# Altium footprint library TI Power Management Lighting and Display.PcbLib: 148 footprints (part 8 of 10)
Each footprint in its own frame and in the unit in brackets; x right, y up, seen from the top. Pads: shape width x height; smd on the part's side, far side on the other; paste and mask are expansions set on the pad; w line width, h text height; cw(c..) or ccw(c..) is an arc to the next point about the centre after c.
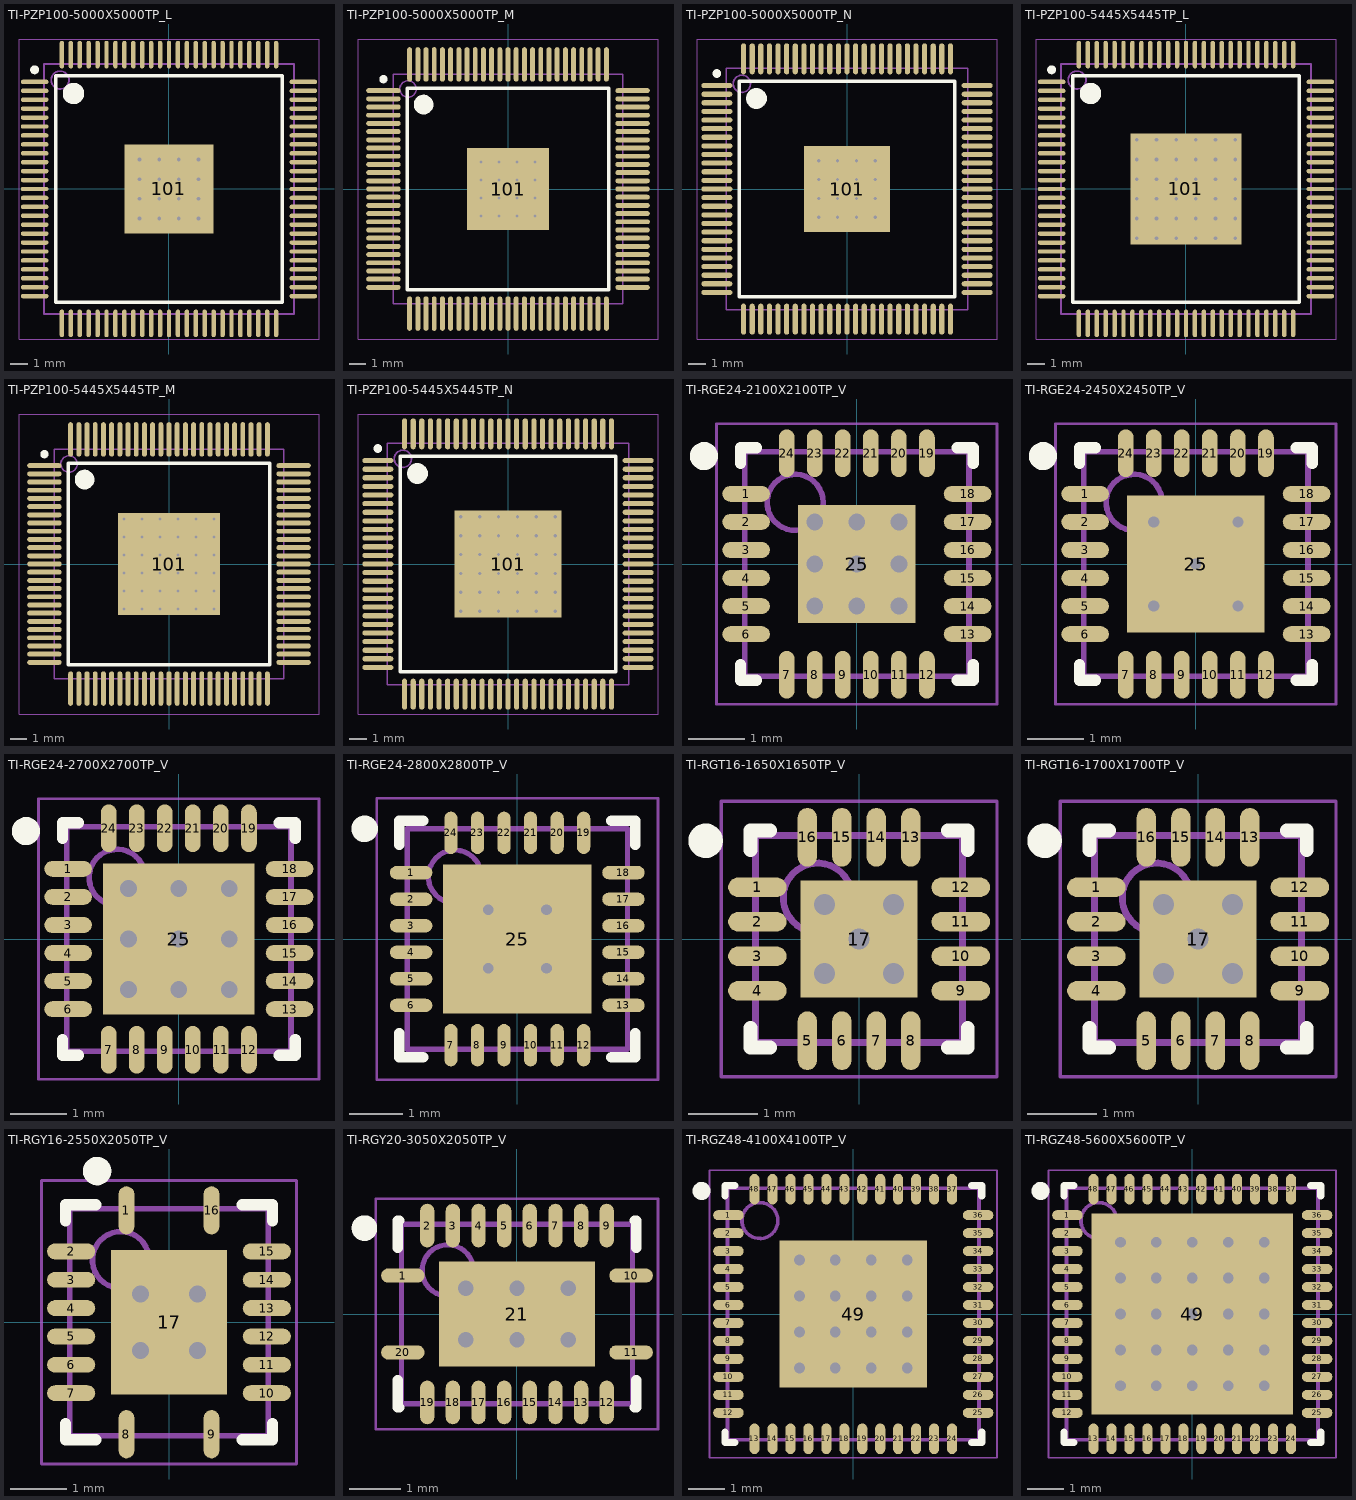
[diagram p7: the footprints below, top view; thin cyan lines are the x and y axes]

## TI-PZP100-5000X5000TP_L [mm] "QFP, 100-Leads, Body 14x14mm, Pitch 0.5mm, Thermal Pad 5x5mm, IPC High Density"
height 1.2
pads (101):
  oval 1.55x0.25 smd: 1(-7.525,6) 2(-7.525,5.5) 3(-7.525,5) 4(-7.525,4.5) 5(-7.525,4) 6(-7.525,3.5) 7(-7.525,3) 8(-7.525,2.5) 9(-7.525,2) 10(-7.525,1.5) 11(-7.525,1) 12(-7.525,0.5) 13(-7.525,0) 14(-7.525,-0.5) 15(-7.525,-1) 16(-7.525,-1.5) 17(-7.525,-2) 18(-7.525,-2.5) 19(-7.525,-3) 20(-7.525,-3.5) 21(-7.525,-4) 22(-7.525,-4.5) 23(-7.525,-5) 24(-7.525,-5.5) 25(-7.525,-6) 51(7.525,-6) 52(7.525,-5.5) 53(7.525,-5) 54(7.525,-4.5) 55(7.525,-4) 56(7.525,-3.5) 57(7.525,-3) 58(7.525,-2.5) 59(7.525,-2) 60(7.525,-1.5) 61(7.525,-1) 62(7.525,-0.5) 63(7.525,0) 64(7.525,0.5) 65(7.525,1) 66(7.525,1.5) 67(7.525,2) 68(7.525,2.5) 69(7.525,3) 70(7.525,3.5) 71(7.525,4) 72(7.525,4.5) 73(7.525,5) 74(7.525,5.5) 75(7.525,6)
  oval 0.25x1.55 smd: 26(-6,-7.525) 27(-5.5,-7.525) 28(-5,-7.525) 29(-4.5,-7.525) 30(-4,-7.525) 31(-3.5,-7.525) 32(-3,-7.525) 33(-2.5,-7.525) 34(-2,-7.525) 35(-1.5,-7.525) 36(-1,-7.525) 37(-0.5,-7.525) 38(0,-7.525) 39(0.5,-7.525) 40(1,-7.525) 41(1.5,-7.525) 42(2,-7.525) 43(2.5,-7.525) 44(3,-7.525) 45(3.5,-7.525) 46(4,-7.525) 47(4.5,-7.525) 48(5,-7.525) 49(5.5,-7.525) 50(6,-7.525) 76(6,7.525) 77(5.5,7.525) 78(5,7.525) 79(4.5,7.525) 80(4,7.525) 81(3.5,7.525) 82(3,7.525) 83(2.5,7.525) 84(2,7.525) 85(1.5,7.525) 86(1,7.525) 87(0.5,7.525) 88(0,7.525) 89(-0.5,7.525) 90(-1,7.525) 91(-1.5,7.525) 92(-2,7.525) 93(-2.5,7.525) 94(-3,7.525) 95(-3.5,7.525) 96(-4,7.525) 97(-4.5,7.525) 98(-5,7.525) 99(-5.5,7.525) 100(-6,7.525)
  rect 5x5 smd: 101(0,0)
via -1.65,1.65 diameter 0.5 hole 0.2
via -0.55,1.65 diameter 0.5 hole 0.2
via 0.55,1.65 diameter 0.5 hole 0.2
via 1.65,1.65 diameter 0.5 hole 0.2
via -1.65,0.55 diameter 0.5 hole 0.2
via -0.55,0.55 diameter 0.5 hole 0.2
via 0.55,0.55 diameter 0.5 hole 0.2
via 1.65,0.55 diameter 0.5 hole 0.2
via -1.65,-0.55 diameter 0.5 hole 0.2
via -0.55,-0.55 diameter 0.5 hole 0.2
via 0.55,-0.55 diameter 0.5 hole 0.2
via 1.65,-0.55 diameter 0.5 hole 0.2
via -1.65,-1.65 diameter 0.5 hole 0.2
via -0.55,-1.65 diameter 0.5 hole 0.2
via 0.55,-1.65 diameter 0.5 hole 0.2
via 1.65,-1.65 diameter 0.5 hole 0.2
Top Overlay:
  circle w0.25: c-7.525,6.675 r0.125
  circle w0.6: c-5.35,5.35 r0.3
  lines w0.2: -6.35,-6.35 -6.35,6.35 6.35,6.35 6.35,-6.35 -6.35,-6.35
Mechanical 13:
  circle w0.1: c-6.1,6.1 r0.5
  lines w0.1: -7,-7 -7,7 7,7 7,-7 -7,-7
Mechanical 15:
  lines w0.05: -8.4,-8.4 -8.4,8.4 8.4,8.4 8.4,-8.4 -8.4,-8.4
  lines w0.1: -0.5,0 0.5,0 ; 0,-0.5 0,0.5
3D body: height 1.2, standoff 0.05, extent -7,-7 7,7

## TI-PZP100-5000X5000TP_M [mm] "QFP, 100-Leads, Body 14x14mm, Pitch 0.5mm, Thermal Pad 5x5mm, IPC Low Density"
height 1.2
pads (101):
  oval 2.1x0.3 smd: 1(-7.6,6) 2(-7.6,5.5) 3(-7.6,5) 4(-7.6,4.5) 5(-7.6,4) 6(-7.6,3.5) 7(-7.6,3) 8(-7.6,2.5) 9(-7.6,2) 10(-7.6,1.5) 11(-7.6,1) 12(-7.6,0.5) 13(-7.6,0) 14(-7.6,-0.5) 15(-7.6,-1) 16(-7.6,-1.5) 17(-7.6,-2) 18(-7.6,-2.5) 19(-7.6,-3) 20(-7.6,-3.5) 21(-7.6,-4) 22(-7.6,-4.5) 23(-7.6,-5) 24(-7.6,-5.5) 25(-7.6,-6) 51(7.6,-6) 52(7.6,-5.5) 53(7.6,-5) 54(7.6,-4.5) 55(7.6,-4) 56(7.6,-3.5) 57(7.6,-3) 58(7.6,-2.5) 59(7.6,-2) 60(7.6,-1.5) 61(7.6,-1) 62(7.6,-0.5) 63(7.6,0) 64(7.6,0.5) 65(7.6,1) 66(7.6,1.5) 67(7.6,2) 68(7.6,2.5) 69(7.6,3) 70(7.6,3.5) 71(7.6,4) 72(7.6,4.5) 73(7.6,5) 74(7.6,5.5) 75(7.6,6)
  oval 0.3x2.1 smd: 26(-6,-7.6) 27(-5.5,-7.6) 28(-5,-7.6) 29(-4.5,-7.6) 30(-4,-7.6) 31(-3.5,-7.6) 32(-3,-7.6) 33(-2.5,-7.6) 34(-2,-7.6) 35(-1.5,-7.6) 36(-1,-7.6) 37(-0.5,-7.6) 38(0,-7.6) 39(0.5,-7.6) 40(1,-7.6) 41(1.5,-7.6) 42(2,-7.6) 43(2.5,-7.6) 44(3,-7.6) 45(3.5,-7.6) 46(4,-7.6) 47(4.5,-7.6) 48(5,-7.6) 49(5.5,-7.6) 50(6,-7.6) 76(6,7.6) 77(5.5,7.6) 78(5,7.6) 79(4.5,7.6) 80(4,7.6) 81(3.5,7.6) 82(3,7.6) 83(2.5,7.6) 84(2,7.6) 85(1.5,7.6) 86(1,7.6) 87(0.5,7.6) 88(0,7.6) 89(-0.5,7.6) 90(-1,7.6) 91(-1.5,7.6) 92(-2,7.6) 93(-2.5,7.6) 94(-3,7.6) 95(-3.5,7.6) 96(-4,7.6) 97(-4.5,7.6) 98(-5,7.6) 99(-5.5,7.6) 100(-6,7.6)
  rect 5x5 smd: 101(0,0)
via -1.65,1.65 diameter 0.5 hole 0.2
via -0.55,1.65 diameter 0.5 hole 0.2
via 0.55,1.65 diameter 0.5 hole 0.2
via 1.65,1.65 diameter 0.5 hole 0.2
via -1.65,0.55 diameter 0.5 hole 0.2
via -0.55,0.55 diameter 0.5 hole 0.2
via 0.55,0.55 diameter 0.5 hole 0.2
via 1.65,0.55 diameter 0.5 hole 0.2
via -1.65,-0.55 diameter 0.5 hole 0.2
via -0.55,-0.55 diameter 0.5 hole 0.2
via 0.55,-0.55 diameter 0.5 hole 0.2
via 1.65,-0.55 diameter 0.5 hole 0.2
via -1.65,-1.65 diameter 0.5 hole 0.2
via -0.55,-1.65 diameter 0.5 hole 0.2
via 0.55,-1.65 diameter 0.5 hole 0.2
via 1.65,-1.65 diameter 0.5 hole 0.2
Top Overlay:
  circle w0.25: c-7.6,6.7 r0.125
  circle w0.6: c-5.15,5.15 r0.3
  lines w0.2: -6.15,-6.15 -6.15,6.15 6.15,6.15 6.15,-6.15 -6.15,-6.15
Mechanical 13:
  circle w0.1: c-6.1,6.1 r0.5
  lines w0.1: -7,-7 -7,7 7,7 7,-7 -7,-7
Mechanical 15:
  lines w0.05: -9.15,-9.15 -9.15,9.15 9.15,9.15 9.15,-9.15 -9.15,-9.15
  lines w0.1: -0.5,0 0.5,0 ; 0,-0.5 0,0.5
3D body: height 1.2, standoff 0.05, extent -7,-7 7,7

## TI-PZP100-5000X5000TP_N [mm] "QFP, 100-Leads, Body 14x14mm, Pitch 0.5mm, Thermal Pad 5x5mm, IPC Medium Density"
height 1.2
pads (101):
  oval 1.8x0.3 smd: 1(-7.55,6) 2(-7.55,5.5) 3(-7.55,5) 4(-7.55,4.5) 5(-7.55,4) 6(-7.55,3.5) 7(-7.55,3) 8(-7.55,2.5) 9(-7.55,2) 10(-7.55,1.5) 11(-7.55,1) 12(-7.55,0.5) 13(-7.55,0) 14(-7.55,-0.5) 15(-7.55,-1) 16(-7.55,-1.5) 17(-7.55,-2) 18(-7.55,-2.5) 19(-7.55,-3) 20(-7.55,-3.5) 21(-7.55,-4) 22(-7.55,-4.5) 23(-7.55,-5) 24(-7.55,-5.5) 25(-7.55,-6) 51(7.55,-6) 52(7.55,-5.5) 53(7.55,-5) 54(7.55,-4.5) 55(7.55,-4) 56(7.55,-3.5) 57(7.55,-3) 58(7.55,-2.5) 59(7.55,-2) 60(7.55,-1.5) 61(7.55,-1) 62(7.55,-0.5) 63(7.55,0) 64(7.55,0.5) 65(7.55,1) 66(7.55,1.5) 67(7.55,2) 68(7.55,2.5) 69(7.55,3) 70(7.55,3.5) 71(7.55,4) 72(7.55,4.5) 73(7.55,5) 74(7.55,5.5) 75(7.55,6)
  oval 0.3x1.8 smd: 26(-6,-7.55) 27(-5.5,-7.55) 28(-5,-7.55) 29(-4.5,-7.55) 30(-4,-7.55) 31(-3.5,-7.55) 32(-3,-7.55) 33(-2.5,-7.55) 34(-2,-7.55) 35(-1.5,-7.55) 36(-1,-7.55) 37(-0.5,-7.55) 38(0,-7.55) 39(0.5,-7.55) 40(1,-7.55) 41(1.5,-7.55) 42(2,-7.55) 43(2.5,-7.55) 44(3,-7.55) 45(3.5,-7.55) 46(4,-7.55) 47(4.5,-7.55) 48(5,-7.55) 49(5.5,-7.55) 50(6,-7.55) 76(6,7.55) 77(5.5,7.55) 78(5,7.55) 79(4.5,7.55) 80(4,7.55) 81(3.5,7.55) 82(3,7.55) 83(2.5,7.55) 84(2,7.55) 85(1.5,7.55) 86(1,7.55) 87(0.5,7.55) 88(0,7.55) 89(-0.5,7.55) 90(-1,7.55) 91(-1.5,7.55) 92(-2,7.55) 93(-2.5,7.55) 94(-3,7.55) 95(-3.5,7.55) 96(-4,7.55) 97(-4.5,7.55) 98(-5,7.55) 99(-5.5,7.55) 100(-6,7.55)
  rect 5x5 smd: 101(0,0)
via -1.65,1.65 diameter 0.5 hole 0.2
via -0.55,1.65 diameter 0.5 hole 0.2
via 0.55,1.65 diameter 0.5 hole 0.2
via 1.65,1.65 diameter 0.5 hole 0.2
via -1.65,0.55 diameter 0.5 hole 0.2
via -0.55,0.55 diameter 0.5 hole 0.2
via 0.55,0.55 diameter 0.5 hole 0.2
via 1.65,0.55 diameter 0.5 hole 0.2
via -1.65,-0.55 diameter 0.5 hole 0.2
via -0.55,-0.55 diameter 0.5 hole 0.2
via 0.55,-0.55 diameter 0.5 hole 0.2
via 1.65,-0.55 diameter 0.5 hole 0.2
via -1.65,-1.65 diameter 0.5 hole 0.2
via -0.55,-1.65 diameter 0.5 hole 0.2
via 0.55,-1.65 diameter 0.5 hole 0.2
via 1.65,-1.65 diameter 0.5 hole 0.2
Top Overlay:
  circle w0.25: c-7.55,6.7 r0.125
  circle w0.6: c-5.25,5.25 r0.3
  lines w0.2: -6.25,-6.25 -6.25,6.25 6.25,6.25 6.25,-6.25 -6.25,-6.25
Mechanical 13:
  circle w0.1: c-6.1,6.1 r0.5
  lines w0.1: -7,-7 -7,7 7,7 7,-7 -7,-7
Mechanical 15:
  lines w0.05: -8.7,-8.7 -8.7,8.7 8.7,8.7 8.7,-8.7 -8.7,-8.7
  lines w0.1: -0.5,0 0.5,0 ; 0,-0.5 0,0.5
3D body: height 1.2, standoff 0.05, extent -7,-7 7,7

## TI-PZP100-5445X5445TP_L [mm] "QFP, 100-Leads, Body 14x14mm, Pitch 0.5mm, Thermal Pad 5.445x5.445mm, IPC High Density"
height 1.2
pads (101):
  oval 1.55x0.25 smd: 1(-7.525,6) 2(-7.525,5.5) 3(-7.525,5) 4(-7.525,4.5) 5(-7.525,4) 6(-7.525,3.5) 7(-7.525,3) 8(-7.525,2.5) 9(-7.525,2) 10(-7.525,1.5) 11(-7.525,1) 12(-7.525,0.5) 13(-7.525,0) 14(-7.525,-0.5) 15(-7.525,-1) 16(-7.525,-1.5) 17(-7.525,-2) 18(-7.525,-2.5) 19(-7.525,-3) 20(-7.525,-3.5) 21(-7.525,-4) 22(-7.525,-4.5) 23(-7.525,-5) 24(-7.525,-5.5) 25(-7.525,-6) 51(7.525,-6) 52(7.525,-5.5) 53(7.525,-5) 54(7.525,-4.5) 55(7.525,-4) 56(7.525,-3.5) 57(7.525,-3) 58(7.525,-2.5) 59(7.525,-2) 60(7.525,-1.5) 61(7.525,-1) 62(7.525,-0.5) 63(7.525,0) 64(7.525,0.5) 65(7.525,1) 66(7.525,1.5) 67(7.525,2) 68(7.525,2.5) 69(7.525,3) 70(7.525,3.5) 71(7.525,4) 72(7.525,4.5) 73(7.525,5) 74(7.525,5.5) 75(7.525,6)
  oval 0.25x1.55 smd: 26(-6,-7.525) 27(-5.5,-7.525) 28(-5,-7.525) 29(-4.5,-7.525) 30(-4,-7.525) 31(-3.5,-7.525) 32(-3,-7.525) 33(-2.5,-7.525) 34(-2,-7.525) 35(-1.5,-7.525) 36(-1,-7.525) 37(-0.5,-7.525) 38(0,-7.525) 39(0.5,-7.525) 40(1,-7.525) 41(1.5,-7.525) 42(2,-7.525) 43(2.5,-7.525) 44(3,-7.525) 45(3.5,-7.525) 46(4,-7.525) 47(4.5,-7.525) 48(5,-7.525) 49(5.5,-7.525) 50(6,-7.525) 76(6,7.525) 77(5.5,7.525) 78(5,7.525) 79(4.5,7.525) 80(4,7.525) 81(3.5,7.525) 82(3,7.525) 83(2.5,7.525) 84(2,7.525) 85(1.5,7.525) 86(1,7.525) 87(0.5,7.525) 88(0,7.525) 89(-0.5,7.525) 90(-1,7.525) 91(-1.5,7.525) 92(-2,7.525) 93(-2.5,7.525) 94(-3,7.525) 95(-3.5,7.525) 96(-4,7.525) 97(-4.5,7.525) 98(-5,7.525) 99(-5.5,7.525) 100(-6,7.525)
  rect 6.2x6.2 smd: 101(0,0)
via -2.75,2.75 diameter 0.5 hole 0.2
via -1.65,2.75 diameter 0.5 hole 0.2
via -0.55,2.75 diameter 0.5 hole 0.2
via 0.55,2.75 diameter 0.5 hole 0.2
via 1.65,2.75 diameter 0.5 hole 0.2
via 2.75,2.75 diameter 0.5 hole 0.2
via -2.75,1.65 diameter 0.5 hole 0.2
via -1.65,1.65 diameter 0.5 hole 0.2
via -0.55,1.65 diameter 0.5 hole 0.2
via 0.55,1.65 diameter 0.5 hole 0.2
via 1.65,1.65 diameter 0.5 hole 0.2
via 2.75,1.65 diameter 0.5 hole 0.2
via -2.75,0.55 diameter 0.5 hole 0.2
via -1.65,0.55 diameter 0.5 hole 0.2
via -0.55,0.55 diameter 0.5 hole 0.2
via 0.55,0.55 diameter 0.5 hole 0.2
via 1.65,0.55 diameter 0.5 hole 0.2
via 2.75,0.55 diameter 0.5 hole 0.2
via -2.75,-0.55 diameter 0.5 hole 0.2
via -1.65,-0.55 diameter 0.5 hole 0.2
via -0.55,-0.55 diameter 0.5 hole 0.2
via 0.55,-0.55 diameter 0.5 hole 0.2
via 1.65,-0.55 diameter 0.5 hole 0.2
via 2.75,-0.55 diameter 0.5 hole 0.2
via -2.75,-1.65 diameter 0.5 hole 0.2
via -1.65,-1.65 diameter 0.5 hole 0.2
via -0.55,-1.65 diameter 0.5 hole 0.2
via 0.55,-1.65 diameter 0.5 hole 0.2
via 1.65,-1.65 diameter 0.5 hole 0.2
via 2.75,-1.65 diameter 0.5 hole 0.2
via -2.75,-2.75 diameter 0.5 hole 0.2
via -1.65,-2.75 diameter 0.5 hole 0.2
via -0.55,-2.75 diameter 0.5 hole 0.2
via 0.55,-2.75 diameter 0.5 hole 0.2
via 1.65,-2.75 diameter 0.5 hole 0.2
via 2.75,-2.75 diameter 0.5 hole 0.2
Top Overlay:
  circle w0.25: c-7.525,6.675 r0.125
  circle w0.6: c-5.35,5.35 r0.3
  lines w0.2: -6.35,-6.35 -6.35,6.35 6.35,6.35 6.35,-6.35 -6.35,-6.35
Mechanical 13:
  circle w0.1: c-6.1,6.1 r0.5
  lines w0.1: -7,-7 -7,7 7,7 7,-7 -7,-7
Mechanical 15:
  lines w0.05: -8.4,-8.4 -8.4,8.4 8.4,8.4 8.4,-8.4 -8.4,-8.4
  lines w0.1: -0.5,0 0.5,0 ; 0,-0.5 0,0.5
3D body: height 1.2, standoff 0.05, extent -7,-7 7,7

## TI-PZP100-5445X5445TP_M [mm] "QFP, 100-Leads, Body 14x14mm, Pitch 0.5mm, Thermal Pad 5.445x5.445mm, IPC Low Density"
height 1.2
pads (101):
  oval 2.1x0.3 smd: 1(-7.6,6) 2(-7.6,5.5) 3(-7.6,5) 4(-7.6,4.5) 5(-7.6,4) 6(-7.6,3.5) 7(-7.6,3) 8(-7.6,2.5) 9(-7.6,2) 10(-7.6,1.5) 11(-7.6,1) 12(-7.6,0.5) 13(-7.6,0) 14(-7.6,-0.5) 15(-7.6,-1) 16(-7.6,-1.5) 17(-7.6,-2) 18(-7.6,-2.5) 19(-7.6,-3) 20(-7.6,-3.5) 21(-7.6,-4) 22(-7.6,-4.5) 23(-7.6,-5) 24(-7.6,-5.5) 25(-7.6,-6) 51(7.6,-6) 52(7.6,-5.5) 53(7.6,-5) 54(7.6,-4.5) 55(7.6,-4) 56(7.6,-3.5) 57(7.6,-3) 58(7.6,-2.5) 59(7.6,-2) 60(7.6,-1.5) 61(7.6,-1) 62(7.6,-0.5) 63(7.6,0) 64(7.6,0.5) 65(7.6,1) 66(7.6,1.5) 67(7.6,2) 68(7.6,2.5) 69(7.6,3) 70(7.6,3.5) 71(7.6,4) 72(7.6,4.5) 73(7.6,5) 74(7.6,5.5) 75(7.6,6)
  oval 0.3x2.1 smd: 26(-6,-7.6) 27(-5.5,-7.6) 28(-5,-7.6) 29(-4.5,-7.6) 30(-4,-7.6) 31(-3.5,-7.6) 32(-3,-7.6) 33(-2.5,-7.6) 34(-2,-7.6) 35(-1.5,-7.6) 36(-1,-7.6) 37(-0.5,-7.6) 38(0,-7.6) 39(0.5,-7.6) 40(1,-7.6) 41(1.5,-7.6) 42(2,-7.6) 43(2.5,-7.6) 44(3,-7.6) 45(3.5,-7.6) 46(4,-7.6) 47(4.5,-7.6) 48(5,-7.6) 49(5.5,-7.6) 50(6,-7.6) 76(6,7.6) 77(5.5,7.6) 78(5,7.6) 79(4.5,7.6) 80(4,7.6) 81(3.5,7.6) 82(3,7.6) 83(2.5,7.6) 84(2,7.6) 85(1.5,7.6) 86(1,7.6) 87(0.5,7.6) 88(0,7.6) 89(-0.5,7.6) 90(-1,7.6) 91(-1.5,7.6) 92(-2,7.6) 93(-2.5,7.6) 94(-3,7.6) 95(-3.5,7.6) 96(-4,7.6) 97(-4.5,7.6) 98(-5,7.6) 99(-5.5,7.6) 100(-6,7.6)
  rect 6.2x6.2 smd: 101(0,0)
via -2.75,2.75 diameter 0.5 hole 0.2
via -1.65,2.75 diameter 0.5 hole 0.2
via -0.55,2.75 diameter 0.5 hole 0.2
via 0.55,2.75 diameter 0.5 hole 0.2
via 1.65,2.75 diameter 0.5 hole 0.2
via 2.75,2.75 diameter 0.5 hole 0.2
via -2.75,1.65 diameter 0.5 hole 0.2
via -1.65,1.65 diameter 0.5 hole 0.2
via -0.55,1.65 diameter 0.5 hole 0.2
via 0.55,1.65 diameter 0.5 hole 0.2
via 1.65,1.65 diameter 0.5 hole 0.2
via 2.75,1.65 diameter 0.5 hole 0.2
via -2.75,0.55 diameter 0.5 hole 0.2
via -1.65,0.55 diameter 0.5 hole 0.2
via -0.55,0.55 diameter 0.5 hole 0.2
via 0.55,0.55 diameter 0.5 hole 0.2
via 1.65,0.55 diameter 0.5 hole 0.2
via 2.75,0.55 diameter 0.5 hole 0.2
via -2.75,-0.55 diameter 0.5 hole 0.2
via -1.65,-0.55 diameter 0.5 hole 0.2
via -0.55,-0.55 diameter 0.5 hole 0.2
via 0.55,-0.55 diameter 0.5 hole 0.2
via 1.65,-0.55 diameter 0.5 hole 0.2
via 2.75,-0.55 diameter 0.5 hole 0.2
via -2.75,-1.65 diameter 0.5 hole 0.2
via -1.65,-1.65 diameter 0.5 hole 0.2
via -0.55,-1.65 diameter 0.5 hole 0.2
via 0.55,-1.65 diameter 0.5 hole 0.2
via 1.65,-1.65 diameter 0.5 hole 0.2
via 2.75,-1.65 diameter 0.5 hole 0.2
via -2.75,-2.75 diameter 0.5 hole 0.2
via -1.65,-2.75 diameter 0.5 hole 0.2
via -0.55,-2.75 diameter 0.5 hole 0.2
via 0.55,-2.75 diameter 0.5 hole 0.2
via 1.65,-2.75 diameter 0.5 hole 0.2
via 2.75,-2.75 diameter 0.5 hole 0.2
Top Overlay:
  circle w0.25: c-7.6,6.7 r0.125
  circle w0.6: c-5.15,5.15 r0.3
  lines w0.2: -6.15,-6.15 -6.15,6.15 6.15,6.15 6.15,-6.15 -6.15,-6.15
Mechanical 13:
  circle w0.1: c-6.1,6.1 r0.5
  lines w0.1: -7,-7 -7,7 7,7 7,-7 -7,-7
Mechanical 15:
  lines w0.05: -9.15,-9.15 -9.15,9.15 9.15,9.15 9.15,-9.15 -9.15,-9.15
  lines w0.1: -0.5,0 0.5,0 ; 0,-0.5 0,0.5
3D body: height 1.2, standoff 0.05, extent -7,-7 7,7

## TI-PZP100-5445X5445TP_N [mm] "QFP, 100-Leads, Body 14x14mm, Pitch 0.5mm, Thermal Pad 5.445x5.445mm, IPC Medium Density"
height 1.2
pads (101):
  oval 1.8x0.3 smd: 1(-7.55,6) 2(-7.55,5.5) 3(-7.55,5) 4(-7.55,4.5) 5(-7.55,4) 6(-7.55,3.5) 7(-7.55,3) 8(-7.55,2.5) 9(-7.55,2) 10(-7.55,1.5) 11(-7.55,1) 12(-7.55,0.5) 13(-7.55,0) 14(-7.55,-0.5) 15(-7.55,-1) 16(-7.55,-1.5) 17(-7.55,-2) 18(-7.55,-2.5) 19(-7.55,-3) 20(-7.55,-3.5) 21(-7.55,-4) 22(-7.55,-4.5) 23(-7.55,-5) 24(-7.55,-5.5) 25(-7.55,-6) 51(7.55,-6) 52(7.55,-5.5) 53(7.55,-5) 54(7.55,-4.5) 55(7.55,-4) 56(7.55,-3.5) 57(7.55,-3) 58(7.55,-2.5) 59(7.55,-2) 60(7.55,-1.5) 61(7.55,-1) 62(7.55,-0.5) 63(7.55,0) 64(7.55,0.5) 65(7.55,1) 66(7.55,1.5) 67(7.55,2) 68(7.55,2.5) 69(7.55,3) 70(7.55,3.5) 71(7.55,4) 72(7.55,4.5) 73(7.55,5) 74(7.55,5.5) 75(7.55,6)
  oval 0.3x1.8 smd: 26(-6,-7.55) 27(-5.5,-7.55) 28(-5,-7.55) 29(-4.5,-7.55) 30(-4,-7.55) 31(-3.5,-7.55) 32(-3,-7.55) 33(-2.5,-7.55) 34(-2,-7.55) 35(-1.5,-7.55) 36(-1,-7.55) 37(-0.5,-7.55) 38(0,-7.55) 39(0.5,-7.55) 40(1,-7.55) 41(1.5,-7.55) 42(2,-7.55) 43(2.5,-7.55) 44(3,-7.55) 45(3.5,-7.55) 46(4,-7.55) 47(4.5,-7.55) 48(5,-7.55) 49(5.5,-7.55) 50(6,-7.55) 76(6,7.55) 77(5.5,7.55) 78(5,7.55) 79(4.5,7.55) 80(4,7.55) 81(3.5,7.55) 82(3,7.55) 83(2.5,7.55) 84(2,7.55) 85(1.5,7.55) 86(1,7.55) 87(0.5,7.55) 88(0,7.55) 89(-0.5,7.55) 90(-1,7.55) 91(-1.5,7.55) 92(-2,7.55) 93(-2.5,7.55) 94(-3,7.55) 95(-3.5,7.55) 96(-4,7.55) 97(-4.5,7.55) 98(-5,7.55) 99(-5.5,7.55) 100(-6,7.55)
  rect 6.2x6.2 smd: 101(0,0)
via -2.75,2.75 diameter 0.5 hole 0.2
via -1.65,2.75 diameter 0.5 hole 0.2
via -0.55,2.75 diameter 0.5 hole 0.2
via 0.55,2.75 diameter 0.5 hole 0.2
via 1.65,2.75 diameter 0.5 hole 0.2
via 2.75,2.75 diameter 0.5 hole 0.2
via -2.75,1.65 diameter 0.5 hole 0.2
via -1.65,1.65 diameter 0.5 hole 0.2
via -0.55,1.65 diameter 0.5 hole 0.2
via 0.55,1.65 diameter 0.5 hole 0.2
via 1.65,1.65 diameter 0.5 hole 0.2
via 2.75,1.65 diameter 0.5 hole 0.2
via -2.75,0.55 diameter 0.5 hole 0.2
via -1.65,0.55 diameter 0.5 hole 0.2
via -0.55,0.55 diameter 0.5 hole 0.2
via 0.55,0.55 diameter 0.5 hole 0.2
via 1.65,0.55 diameter 0.5 hole 0.2
via 2.75,0.55 diameter 0.5 hole 0.2
via -2.75,-0.55 diameter 0.5 hole 0.2
via -1.65,-0.55 diameter 0.5 hole 0.2
via -0.55,-0.55 diameter 0.5 hole 0.2
via 0.55,-0.55 diameter 0.5 hole 0.2
via 1.65,-0.55 diameter 0.5 hole 0.2
via 2.75,-0.55 diameter 0.5 hole 0.2
via -2.75,-1.65 diameter 0.5 hole 0.2
via -1.65,-1.65 diameter 0.5 hole 0.2
via -0.55,-1.65 diameter 0.5 hole 0.2
via 0.55,-1.65 diameter 0.5 hole 0.2
via 1.65,-1.65 diameter 0.5 hole 0.2
via 2.75,-1.65 diameter 0.5 hole 0.2
via -2.75,-2.75 diameter 0.5 hole 0.2
via -1.65,-2.75 diameter 0.5 hole 0.2
via -0.55,-2.75 diameter 0.5 hole 0.2
via 0.55,-2.75 diameter 0.5 hole 0.2
via 1.65,-2.75 diameter 0.5 hole 0.2
via 2.75,-2.75 diameter 0.5 hole 0.2
Top Overlay:
  circle w0.25: c-7.55,6.7 r0.125
  circle w0.6: c-5.25,5.25 r0.3
  lines w0.2: -6.25,-6.25 -6.25,6.25 6.25,6.25 6.25,-6.25 -6.25,-6.25
Mechanical 13:
  circle w0.1: c-6.1,6.1 r0.5
  lines w0.1: -7,-7 -7,7 7,7 7,-7 -7,-7
Mechanical 15:
  lines w0.05: -8.7,-8.7 -8.7,8.7 8.7,8.7 8.7,-8.7 -8.7,-8.7
  lines w0.1: -0.5,0 0.5,0 ; 0,-0.5 0,0.5
3D body: height 1.2, standoff 0.05, extent -7,-7 7,7

## TI-RGE24-2100X2100TP_V [mm] "QFN, 24-Leads, Body 4x4mm, Pitch 0.5mm, Thermal Pad 2.1x2.1mm"
height 1
pads (25):
  oval 0.85x0.28 smd: 1(-1.975,1.25) 2(-1.975,0.75) 3(-1.975,0.25) 4(-1.975,-0.25) 5(-1.975,-0.75) 6(-1.975,-1.25) 13(1.975,-1.25) 14(1.975,-0.75) 15(1.975,-0.25) 16(1.975,0.25) 17(1.975,0.75) 18(1.975,1.25)
  oval 0.28x0.85 smd: 7(-1.25,-1.975) 8(-0.75,-1.975) 9(-0.25,-1.975) 10(0.25,-1.975) 11(0.75,-1.975) 12(1.25,-1.975) 19(1.25,1.975) 20(0.75,1.975) 21(0.25,1.975) 22(-0.25,1.975) 23(-0.75,1.975) 24(-1.25,1.975)
  rect 2.1x2.1 smd: 25(0,0)
via -0.75,0.75 diameter 0.5 hole 0.3
via 0.75,0.75 diameter 0.5 hole 0.3
via -0.75,-0.75 diameter 0.5 hole 0.3
via 0.75,-0.75 diameter 0.5 hole 0.3
via 0,0 diameter 0.5 hole 0.3
via 0.75,0 diameter 0.5 hole 0.3
via -0.75,0 diameter 0.5 hole 0.3
via 0,-0.75 diameter 0.5 hole 0.3
via 0,0.75 diameter 0.5 hole 0.3
Top Overlay:
  circle w0.25: c-2.725,1.925 r0.125
  lines w0.2: -2.075,-1.79 -2.075,-2.075 -1.79,-2.075 ; -2.075,1.79 -2.075,2.075 -1.79,2.075 ; 1.79,-2.075 2.075,-2.075 2.075,-1.79 ; 1.79,2.075 2.075,2.075 2.075,1.79
Mechanical 13:
  circle w0.1: c-1.1,1.1 r0.5
  lines w0.1: -2,-2 -2,2 2,2 2,-2 -2,-2
Mechanical 15:
  lines w0.05: -2.5,-2.5 -2.5,2.5 2.5,2.5 2.5,-2.5 -2.5,-2.5
  lines w0.1: -0.5,0 0.5,0 ; 0,-0.5 0,0.5
3D body: height 1, standoff 0, extent -2,-2 2,2

## TI-RGE24-2450X2450TP_V [mm] "QFN, 24-Leads, Body 4x4mm, Pitch 0.5mm, Thermal Pad 2.45x2.45mm"
height 1
pads (25):
  oval 0.85x0.28 smd: 1(-1.975,1.25) 2(-1.975,0.75) 3(-1.975,0.25) 4(-1.975,-0.25) 5(-1.975,-0.75) 6(-1.975,-1.25) 13(1.975,-1.25) 14(1.975,-0.75) 15(1.975,-0.25) 16(1.975,0.25) 17(1.975,0.75) 18(1.975,1.25)
  oval 0.28x0.85 smd: 7(-1.25,-1.975) 8(-0.75,-1.975) 9(-0.25,-1.975) 10(0.25,-1.975) 11(0.75,-1.975) 12(1.25,-1.975) 19(1.25,1.975) 20(0.75,1.975) 21(0.25,1.975) 22(-0.25,1.975) 23(-0.75,1.975) 24(-1.25,1.975)
  rect 2.45x2.45 smd: 25(0,0)
via 0.75,-0.75 diameter 0.5 hole 0.2
via -0.75,-0.75 diameter 0.5 hole 0.2
via 0.75,0.75 diameter 0.5 hole 0.2
via -0.75,0.75 diameter 0.5 hole 0.2
via 0,0 diameter 0.5 hole 0.2
Top Overlay:
  circle w0.25: c-2.725,1.925 r0.125
  lines w0.2: -2.075,-1.79 -2.075,-2.075 -1.79,-2.075 ; -2.075,1.79 -2.075,2.075 -1.79,2.075 ; 1.79,-2.075 2.075,-2.075 2.075,-1.79 ; 1.79,2.075 2.075,2.075 2.075,1.79
Mechanical 13:
  circle w0.1: c-1.1,1.1 r0.5
  lines w0.1: -2,-2 2,-2 2,2 -2,2 -2,-2
Mechanical 15:
  lines w0.05: -2.5,-2.5 2.5,-2.5 2.5,2.5 -2.5,2.5 -2.5,-2.5
  lines w0.1: -0.5,0 0.5,0 ; 0,-0.5 0,0.5
3D body: height 1, standoff 0, extent -2,-2 2,2

## TI-RGE24-2700X2700TP_V [mm] "QFN, 24-Leads, Body 4x4mm, Pitch 0.5mm, Thermal Pad 2.7x2.7mm"
height 1
pads (25):
  oval 0.85x0.28 smd: 1(-1.975,1.25) 2(-1.975,0.75) 3(-1.975,0.25) 4(-1.975,-0.25) 5(-1.975,-0.75) 6(-1.975,-1.25) 13(1.975,-1.25) 14(1.975,-0.75) 15(1.975,-0.25) 16(1.975,0.25) 17(1.975,0.75) 18(1.975,1.25)
  oval 0.28x0.85 smd: 7(-1.25,-1.975) 8(-0.75,-1.975) 9(-0.25,-1.975) 10(0.25,-1.975) 11(0.75,-1.975) 12(1.25,-1.975) 19(1.25,1.975) 20(0.75,1.975) 21(0.25,1.975) 22(-0.25,1.975) 23(-0.75,1.975) 24(-1.25,1.975)
  rect 2.7x2.7 smd: 25(0,0)
via 0.9,-0.9 diameter 0.5 hole 0.3
via -0.9,-0.9 diameter 0.5 hole 0.3
via -0.9,0.9 diameter 0.5 hole 0.3
via 0.9,0.9 diameter 0.5 hole 0.3
via 0,0.9 diameter 0.5 hole 0.3
via 0,0 diameter 0.5 hole 0.3
via 0.9,0 diameter 0.5 hole 0.3
via 0,-0.9 diameter 0.5 hole 0.3
via -0.9,0 diameter 0.5 hole 0.3
Top Overlay:
  circle w0.25: c-2.725,1.925 r0.125
  lines w0.2: -2.075,-1.79 -2.075,-2.075 -1.79,-2.075 ; -2.075,1.79 -2.075,2.075 -1.79,2.075 ; 1.79,-2.075 2.075,-2.075 2.075,-1.79 ; 1.79,2.075 2.075,2.075 2.075,1.79
Mechanical 13:
  circle w0.1: c-1.1,1.1 r0.5
  lines w0.1: -2,-2 -2,2 2,2 2,-2 -2,-2
Mechanical 15:
  lines w0.05: -2.5,-2.5 -2.5,2.5 2.5,2.5 2.5,-2.5 -2.5,-2.5
  lines w0.1: -0.5,0 0.5,0 ; 0,-0.5 0,0.5
3D body: height 1, standoff 0, extent -2,-2 2,2

## TI-RGE24-2800X2800TP_V [mm] "QFN, 24-Leads, Body 4x4mm, Pitch 0.5mm, Thermal Pad 2.8X2.8mm"
height 1
pads (25):
  oval 0.8x0.25 smd: 1(-2,1.25) 2(-2,0.75) 3(-2,0.25) 4(-2,-0.25) 5(-2,-0.75) 6(-2,-1.25) 13(2,-1.25) 14(2,-0.75) 15(2,-0.25) 16(2,0.25) 17(2,0.75) 18(2,1.25)
  oval 0.25x0.8 smd: 7(-1.25,-2) 8(-0.75,-2) 9(-0.25,-2) 10(0.25,-2) 11(0.75,-2) 12(1.25,-2) 19(1.25,2) 20(0.75,2) 21(0.25,2) 22(-0.25,2) 23(-0.75,2) 24(-1.25,2)
  rect 2.8x2.8 smd: 25(0,0)
via 0.55,-0.55 diameter 0.5 hole 0.2
via -0.55,-0.55 diameter 0.5 hole 0.2
via 0.55,0.55 diameter 0.5 hole 0.2
via -0.55,0.55 diameter 0.5 hole 0.2
Top Overlay:
  circle w0.25: c-2.875,2.075 r0.125
  lines w0.2: -2.225,-1.775 -2.225,-2.225 -1.775,-2.225 ; -2.225,1.775 -2.225,2.225 -1.775,2.225 ; 1.775,-2.225 2.225,-2.225 2.225,-1.775 ; 1.775,2.225 2.225,2.225 2.225,1.775
Mechanical 13:
  circle w0.1: c-1.175,1.175 r0.5
  lines w0.1: -2.075,-2.075 2.075,-2.075 2.075,2.075 -2.075,2.075 -2.075,-2.075
Mechanical 15:
  lines w0.05: -2.65,-2.65 2.65,-2.65 2.65,2.65 -2.65,2.65 -2.65,-2.65
  lines w0.1: -0.5,0 0.5,0 ; 0,-0.5 0,0.5
3D body: height 1, standoff 0, extent -2.075,-2.075 2.075,2.075

## TI-RGT16-1650X1650TP_V [mm] "QFN, 16-Leads, Body 3x3mm, Pitch 0.5mm, Thermal Pad 1.7x1.7mm"
height 1
pads (17):
  oval 0.85x0.28 smd: 1(-1.475,0.75) 2(-1.475,0.25) 3(-1.475,-0.25) 4(-1.475,-0.75) 9(1.475,-0.75) 10(1.475,-0.25) 11(1.475,0.25) 12(1.475,0.75)
  oval 0.28x0.85 smd: 5(-0.75,-1.475) 6(-0.25,-1.475) 7(0.25,-1.475) 8(0.75,-1.475) 13(0.75,1.475) 14(0.25,1.475) 15(-0.25,1.475) 16(-0.75,1.475)
  rect 1.7x1.7 smd: 17(0,0)
via 0,0 diameter 0.5 hole 0.3
via 0.5,-0.5 diameter 0.5 hole 0.3
via 0.5,0.5 diameter 0.5 hole 0.3
via -0.5,0.5 diameter 0.5 hole 0.3
via -0.5,-0.5 diameter 0.5 hole 0.3
Top Overlay:
  circle w0.25: c-2.225,1.425 r0.125
  lines w0.2: -1.575,-1.29 -1.575,-1.575 -1.29,-1.575 ; -1.575,1.29 -1.575,1.575 -1.29,1.575 ; 1.29,-1.575 1.575,-1.575 1.575,-1.29 ; 1.29,1.575 1.575,1.575 1.575,1.29
Mechanical 13:
  circle w0.1: c-0.6,0.6 r0.5
  lines w0.1: -1.5,-1.5 1.5,-1.5 1.5,1.5 -1.5,1.5 -1.5,-1.5
Mechanical 15:
  lines w0.05: -2,-2 2,-2 2,2 -2,2 -2,-2
  lines w0.1: -0.5,0 0.5,0 ; 0,-0.5 0,0.5
3D body: height 1, standoff 0, extent -1.5,-1.5 1.5,1.5

## TI-RGT16-1700X1700TP_V [mm] "QFN, 16-Leads, Body 3x3mm, Pitch 0.5mm, Thermal Pad 1.7x1.7mm"
height 1
pads (17):
  oval 0.85x0.28 smd: 1(-1.475,0.75) 2(-1.475,0.25) 3(-1.475,-0.25) 4(-1.475,-0.75) 9(1.475,-0.75) 10(1.475,-0.25) 11(1.475,0.25) 12(1.475,0.75)
  oval 0.28x0.85 smd: 5(-0.75,-1.475) 6(-0.25,-1.475) 7(0.25,-1.475) 8(0.75,-1.475) 13(0.75,1.475) 14(0.25,1.475) 15(-0.25,1.475) 16(-0.75,1.475)
  rect 1.7x1.7 smd: 17(0,0)
via 0,0 diameter 0.5 hole 0.3
via 0.5,0.5 diameter 0.5 hole 0.3
via 0.5,-0.5 diameter 0.5 hole 0.3
via -0.5,-0.5 diameter 0.5 hole 0.3
via -0.5,0.5 diameter 0.5 hole 0.3
Top Overlay:
  circle w0.25: c-2.225,1.425 r0.125
  lines w0.2: -1.575,-1.29 -1.575,-1.575 -1.29,-1.575 ; -1.575,1.29 -1.575,1.575 -1.29,1.575 ; 1.29,-1.575 1.575,-1.575 1.575,-1.29 ; 1.29,1.575 1.575,1.575 1.575,1.29
Mechanical 13:
  circle w0.1: c-0.6,0.6 r0.5
  lines w0.1: -1.5,-1.5 1.5,-1.5 1.5,1.5 -1.5,1.5 -1.5,-1.5
Mechanical 15:
  lines w0.05: -2,-2 2,-2 2,2 -2,2 -2,-2
  lines w0.1: -0.5,0 0.5,0 ; 0,-0.5 0,0.5
3D body: height 1, standoff 0, extent -1.5,-1.5 1.5,1.5

## TI-RGY16-2550X2050TP_V [mm] "QFN, 16-Leads, Body 4x3.5mm, Pitch 0.5mm, Thermal Pad 2.55x2.05mm"
height 1
pads (17):
  oval 0.28x0.85 smd: 1(-0.75,1.975) 8(-0.75,-1.975) 9(0.75,-1.975) 16(0.75,1.975)
  oval 0.85x0.28 smd: 2(-1.725,1.25) 3(-1.725,0.75) 4(-1.725,0.25) 5(-1.725,-0.25) 6(-1.725,-0.75) 7(-1.725,-1.25) 10(1.725,-1.25) 11(1.725,-0.75) 12(1.725,-0.25) 13(1.725,0.25) 14(1.725,0.75) 15(1.725,1.25)
  rect 2.05x2.55 smd: 17(0,0)
via 0.5,-0.5 diameter 0.5 hole 0.3
via -0.5,-0.5 diameter 0.5 hole 0.3
via 0.5,0.5 diameter 0.5 hole 0.3
via -0.5,0.5 diameter 0.5 hole 0.3
Top Overlay:
  circle w0.25: c-1.268,2.667 r0.125
  lines w0.2: -1.825,-1.79 -1.825,-2.075 -1.29,-2.075 ; -1.825,1.79 -1.825,2.075 -1.29,2.075 ; 1.29,-2.075 1.825,-2.075 1.825,-1.79 ; 1.29,2.075 1.825,2.075 1.825,1.79
Mechanical 13:
  circle w0.1: c-0.85,1.1 r0.5
  lines w0.1: -1.75,-2 1.75,-2 1.75,2 -1.75,2 -1.75,-2
Mechanical 15:
  lines w0.05: -2.25,-2.5 2.25,-2.5 2.25,2.5 -2.25,2.5 -2.25,-2.5
  lines w0.1: -0.5,0 0.5,0 ; 0,-0.5 0,0.5
3D body: height 1, standoff 0, extent -1.75,-2 1.75,2

## TI-RGY20-3050X2050TP_V [mm] "QFN, 20-Leads, Body 4.5x3.5mm, Pitch 0.5mm, Thermal Pad 3.05x2.05mm"
height 1
pads (21):
  oval 0.85x0.28 smd: 1(-2.225,0.75) 10(2.225,0.75) 11(2.225,-0.75) 20(-2.225,-0.75)
  oval 0.28x0.85 smd: 2(-1.75,1.725) 3(-1.25,1.725) 4(-0.75,1.725) 5(-0.25,1.725) 6(0.25,1.725) 7(0.75,1.725) 8(1.25,1.725) 9(1.75,1.725) 12(1.75,-1.725) 13(1.25,-1.725) 14(0.75,-1.725) 15(0.25,-1.725) 16(-0.25,-1.725) 17(-0.75,-1.725) 18(-1.25,-1.725) 19(-1.75,-1.725)
  rect 3.05x2.05 smd: 21(0,0)
via -1,0.5 diameter 0.5 hole 0.3
via 0,0.5 diameter 0.5 hole 0.3
via 1,0.5 diameter 0.5 hole 0.3
via -1,-0.5 diameter 0.5 hole 0.3
via 0,-0.5 diameter 0.5 hole 0.3
via 1,-0.5 diameter 0.5 hole 0.3
Top Overlay:
  circle w0.25: c-2.975,1.675 r0.125
  lines w0.2: -2.325,-1.29 -2.325,-1.825 -2.29,-1.825 ; -2.325,1.29 -2.325,1.825 -2.29,1.825 ; 2.29,-1.825 2.325,-1.825 2.325,-1.29 ; 2.29,1.825 2.325,1.825 2.325,1.29
Mechanical 13:
  circle w0.1: c-1.35,0.85 r0.5
  lines w0.1: -2.25,-1.75 -2.25,1.75 2.25,1.75 2.25,-1.75 -2.25,-1.75
Mechanical 15:
  lines w0.05: -2.75,-2.25 -2.75,2.25 2.75,2.25 2.75,-2.25 -2.75,-2.25
  lines w0.1: -0.5,0 0.5,0 ; 0,-0.5 0,0.5
3D body: height 1, standoff 0, extent -2.25,-1.75 2.25,1.75

## TI-RGZ48-4100X4100TP_V [mm] "QFN, 48-Leads, Body 7x7mm, Pitch 0.5mm, Thermal Pad 4.1x4.1mm"
height 1
pads (49):
  oval 0.85x0.28 smd: 1(-3.475,2.75) 2(-3.475,2.25) 3(-3.475,1.75) 4(-3.475,1.25) 5(-3.475,0.75) 6(-3.475,0.25) 7(-3.475,-0.25) 8(-3.475,-0.75) 9(-3.475,-1.25) 10(-3.475,-1.75) 11(-3.475,-2.25) 12(-3.475,-2.75) 25(3.475,-2.75) 26(3.475,-2.25) 27(3.475,-1.75) 28(3.475,-1.25) 29(3.475,-0.75) 30(3.475,-0.25) 31(3.475,0.25) 32(3.475,0.75) 33(3.475,1.25) 34(3.475,1.75) 35(3.475,2.25) 36(3.475,2.75)
  oval 0.28x0.85 smd: 13(-2.75,-3.475) 14(-2.25,-3.475) 15(-1.75,-3.475) 16(-1.25,-3.475) 17(-0.75,-3.475) 18(-0.25,-3.475) 19(0.25,-3.475) 20(0.75,-3.475) 21(1.25,-3.475) 22(1.75,-3.475) 23(2.25,-3.475) 24(2.75,-3.475) 37(2.75,3.475) 38(2.25,3.475) 39(1.75,3.475) 40(1.25,3.475) 41(0.75,3.475) 42(0.25,3.475) 43(-0.25,3.475) 44(-0.75,3.475) 45(-1.25,3.475) 46(-1.75,3.475) 47(-2.25,3.475) 48(-2.75,3.475)
  rect 4.1x4.1 smd: 49(0,0)
via 1.5,-1.5 diameter 0.5 hole 0.3
via 0.5,-1.5 diameter 0.5 hole 0.3
via -0.5,-1.5 diameter 0.5 hole 0.3
via -1.5,-1.5 diameter 0.5 hole 0.3
via 1.5,-0.5 diameter 0.5 hole 0.3
via 0.5,-0.5 diameter 0.5 hole 0.3
via -0.5,-0.5 diameter 0.5 hole 0.3
via -1.5,-0.5 diameter 0.5 hole 0.3
via 1.5,0.5 diameter 0.5 hole 0.3
via 0.5,0.5 diameter 0.5 hole 0.3
via -0.5,0.5 diameter 0.5 hole 0.3
via -1.5,0.5 diameter 0.5 hole 0.3
via 1.5,1.5 diameter 0.5 hole 0.3
via 0.5,1.5 diameter 0.5 hole 0.3
via -0.5,1.5 diameter 0.5 hole 0.3
via -1.5,1.5 diameter 0.5 hole 0.3
Top Overlay:
  circle w0.25: c-4.225,3.425 r0.125
  lines w0.2: -3.575,-3.29 -3.575,-3.575 -3.29,-3.575 ; -3.575,3.29 -3.575,3.575 -3.29,3.575 ; 3.29,-3.575 3.575,-3.575 3.575,-3.29 ; 3.29,3.575 3.575,3.575 3.575,3.29
Mechanical 13:
  circle w0.1: c-2.6,2.6 r0.5
  lines w0.1: -3.5,-3.5 3.5,-3.5 3.5,3.5 -3.5,3.5 -3.5,-3.5
Mechanical 15:
  lines w0.05: -4,-4 4,-4 4,4 -4,4 -4,-4
  lines w0.1: -0.5,0 0.5,0 ; 0,-0.5 0,0.5
3D body: height 1, standoff 0, extent -3.5,-3.5 3.5,3.5

## TI-RGZ48-5600X5600TP_V [mm] "QFN, 48-Leads, Body 7x7mm, Pitch 0.5mm, Thermal Pad 5.6x5.6mm"
height 1
pads (49):
  oval 0.85x0.28 smd: 1(-3.475,2.75) 2(-3.475,2.25) 3(-3.475,1.75) 4(-3.475,1.25) 5(-3.475,0.75) 6(-3.475,0.25) 7(-3.475,-0.25) 8(-3.475,-0.75) 9(-3.475,-1.25) 10(-3.475,-1.75) 11(-3.475,-2.25) 12(-3.475,-2.75) 25(3.475,-2.75) 26(3.475,-2.25) 27(3.475,-1.75) 28(3.475,-1.25) 29(3.475,-0.75) 30(3.475,-0.25) 31(3.475,0.25) 32(3.475,0.75) 33(3.475,1.25) 34(3.475,1.75) 35(3.475,2.25) 36(3.475,2.75)
  oval 0.28x0.85 smd: 13(-2.75,-3.475) 14(-2.25,-3.475) 15(-1.75,-3.475) 16(-1.25,-3.475) 17(-0.75,-3.475) 18(-0.25,-3.475) 19(0.25,-3.475) 20(0.75,-3.475) 21(1.25,-3.475) 22(1.75,-3.475) 23(2.25,-3.475) 24(2.75,-3.475) 37(2.75,3.475) 38(2.25,3.475) 39(1.75,3.475) 40(1.25,3.475) 41(0.75,3.475) 42(0.25,3.475) 43(-0.25,3.475) 44(-0.75,3.475) 45(-1.25,3.475) 46(-1.75,3.475) 47(-2.25,3.475) 48(-2.75,3.475)
  rect 5.6x5.6 smd: 49(0,0)
via -2,2 diameter 0.5 hole 0.3
via -1,2 diameter 0.5 hole 0.3
via 0,2 diameter 0.5 hole 0.3
via 1,2 diameter 0.5 hole 0.3
via 2,2 diameter 0.5 hole 0.3
via -2,1 diameter 0.5 hole 0.3
via -1,1 diameter 0.5 hole 0.3
via 0,1 diameter 0.5 hole 0.3
via 1,1 diameter 0.5 hole 0.3
via 2,1 diameter 0.5 hole 0.3
via -2,0 diameter 0.5 hole 0.3
via -1,0 diameter 0.5 hole 0.3
via 0,0 diameter 0.5 hole 0.3
via 1,0 diameter 0.5 hole 0.3
via 2,0 diameter 0.5 hole 0.3
via -2,-1 diameter 0.5 hole 0.3
via -1,-1 diameter 0.5 hole 0.3
via 0,-1 diameter 0.5 hole 0.3
via 1,-1 diameter 0.5 hole 0.3
via 2,-1 diameter 0.5 hole 0.3
via -2,-2 diameter 0.5 hole 0.3
via -1,-2 diameter 0.5 hole 0.3
via 0,-2 diameter 0.5 hole 0.3
via 1,-2 diameter 0.5 hole 0.3
via 2,-2 diameter 0.5 hole 0.3
Top Overlay:
  circle w0.25: c-4.225,3.425 r0.125
  lines w0.2: -3.575,-3.29 -3.575,-3.575 -3.29,-3.575 ; -3.575,3.29 -3.575,3.575 -3.29,3.575 ; 3.29,-3.575 3.575,-3.575 3.575,-3.29 ; 3.29,3.575 3.575,3.575 3.575,3.29
Mechanical 13:
  circle w0.1: c-2.6,2.6 r0.5
  lines w0.1: -3.5,-3.5 -3.5,3.5 3.5,3.5 3.5,-3.5 -3.5,-3.5
Mechanical 15:
  lines w0.05: -4,-4 -4,4 4,4 4,-4 -4,-4
  lines w0.1: -0.5,0 0.5,0 ; 0,-0.5 0,0.5
3D body: height 1, standoff 0, extent -3.5,-3.5 3.5,3.5